# EAGLE library part SI7113 (library DSDEagleLibrary)
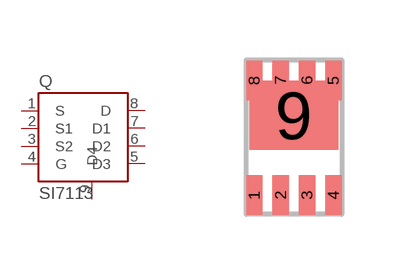
[diagram p25: symbol with the pads of SI7113; footprint SI7113]

Designator prefix Q

## SI7113  [SI7113]
1  S
2  S1
3  S2
4  G
5  D3
6  D2
7  D1
8  D
9  D4

## Footprint SI7113 (pad centres in mm)
smd 0.406 x 0.991: 1 0,0; 2 0.66,0; 3 1.321,0; 4 1.981,0; 5 1.981,2.87; 6 1.321,2.87; 7 0.66,2.87; 8 0,2.87
smd 2.235 x 1.727: 9 0.991,1.994